# EAGLE library part MILLI-GRID-26 (library con-molex)
Milli-Grid Pin Header 2.00mm (.079") Pitch
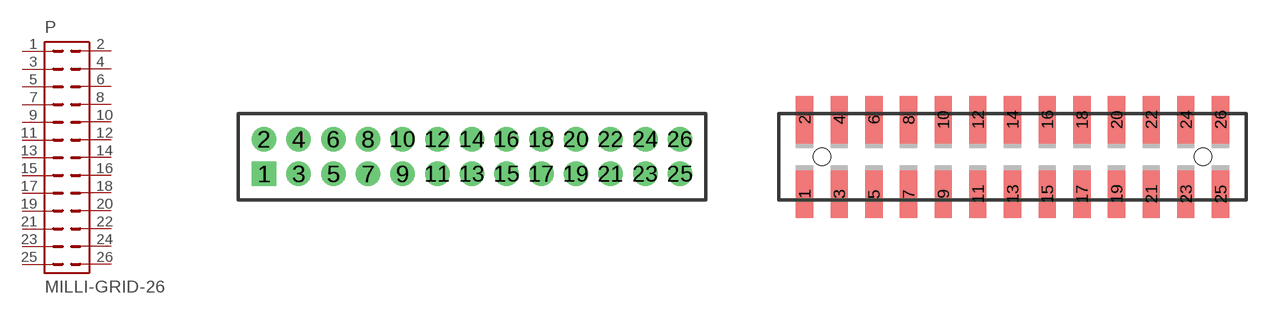
[diagram p61: symbol with the pads of 87758-26; footprints 87758-26, 87759-26]

Designator prefix P

## MILLI-GRID-26-87758  [87758-26]
1  1  pas
2  2  pas
3  3  pas
4  4  pas
5  5  pas
6  6  pas
7  7  pas
8  8  pas
9  9  pas
10  10  pas
11  11  pas
12  12  pas
13  13  pas
14  14  pas
15  15  pas
16  16  pas
17  17  pas
18  18  pas
19  19  pas
20  20  pas
21  21  pas
22  22  pas
23  23  pas
24  24  pas
25  25  pas
26  26  pas

## MILLI-GRID-26-87759  [87759-26]
Pads as for 87758-26

## MILLI-GRID-26-87264  [87264-26]
Pads as for 87758-26

## MILLI-GRID-26-87368  [87368-26]
Pads as for 87758-26

## Footprint 87758-26 (pad centres in mm)
PCB Pin Headers 2.00mm (.079") Pitch Milli-Grid Header, Vertical
drill 0.914 square: 1 -12,-1
drill 0.914: 2 -12,1; 3 -10,-1; 4 -10,1; 5 -8,-1; 6 -8,1; 7 -6,-1; 8 -6,1; 9 -4,-1; 10 -4,1; 11 -2,-1; 12 -2,1; 13 0,-1; 14 0,1; 15 2,-1; 16 2,1; 17 4,-1; 18 4,1; 19 6,-1; 20 6,1; 21 8,-1; 22 8,1; 23 10,-1; 24 10,1; 25 12,-1; 26 12,1

## Footprint 87759-26 (pad centres in mm)
PCB Pin Headers 2.00mm (.079") Pitch Milli-Grid Header, Vertical SMD
smd 1 x 2.75: 1 -12,-2.15; 2 -12,2.15; 3 -10,-2.15; 4 -10,2.15; 5 -8,-2.15; 6 -8,2.15; 7 -6,-2.15; 8 -6,2.15; 9 -4,-2.15; 10 -4,2.15; 11 -2,-2.15; 12 -2,2.15; 13 0,-2.15; 14 0,2.15; 15 2,-2.15; 16 2,2.15; 17 4,-2.15; 18 4,2.15; 19 6,-2.15; 20 6,2.15; 21 8,-2.15; 22 8,2.15; 23 10,-2.15; 24 10,2.15; 25 12,-2.15; 26 12,2.15
hole 1 at -11,0
hole 1 at 11,0

## Footprint 87264-26 (pad centres in mm)
Board-To-Board Receptacal 2.00mm (.079") Pitch Milli-Grid Header, Side Entry Mates with 2mm(.079") Mill-Grid Header
drill 0.914 square: 1 -12,-2.25
drill 0.914: 2 -12,2.25; 3 -10,-2.25; 4 -10,2.25; 5 -8,-2.25; 6 -8,2.25; 7 -6,-2.25; 8 -6,2.25; 9 -4,-2.25; 10 -4,2.25; 11 -2,-2.25; 12 -2,2.25; 13 0,-2.25; 14 0,2.25; 15 2,-2.25; 16 2,2.25; 17 4,-2.25; 18 4,2.25; 19 6,-2.25; 20 6,2.25; 21 8,-2.25; 22 8,2.25; 23 10,-2.25; 24 10,2.25; 25 12,-2.25; 26 12,2.25

## Footprint 87368-26 (pad centres in mm)
Board-To-Board Receptacal 2.00mm (.079") Pitch Milli-Grid Header, Side Entry SMD Mates with 2mm(.079") Mill-Grid Header
smd 1 x 2.8: 1 -12,-3.1; 2 -12,3.1; 3 -10,-3.1; 4 -10,3.1; 5 -8,-3.1; 6 -8,3.1; 7 -6,-3.1; 8 -6,3.1; 9 -4,-3.1; 10 -4,3.1; 11 -2,-3.1; 12 -2,3.1; 13 0,-3.1; 14 0,3.1; 15 2,-3.1; 16 2,3.1; 17 4,-3.1; 18 4,3.1; 19 6,-3.1; 20 6,3.1; 21 8,-3.1; 22 8,3.1; 23 10,-3.1; 24 10,3.1; 25 12,-3.1; 26 12,3.1
hole 0.914 at -12,0
hole 0.914 at 0,0